# EAGLE library part M37903S4CHP(100PIN) (library renesas_mcu)
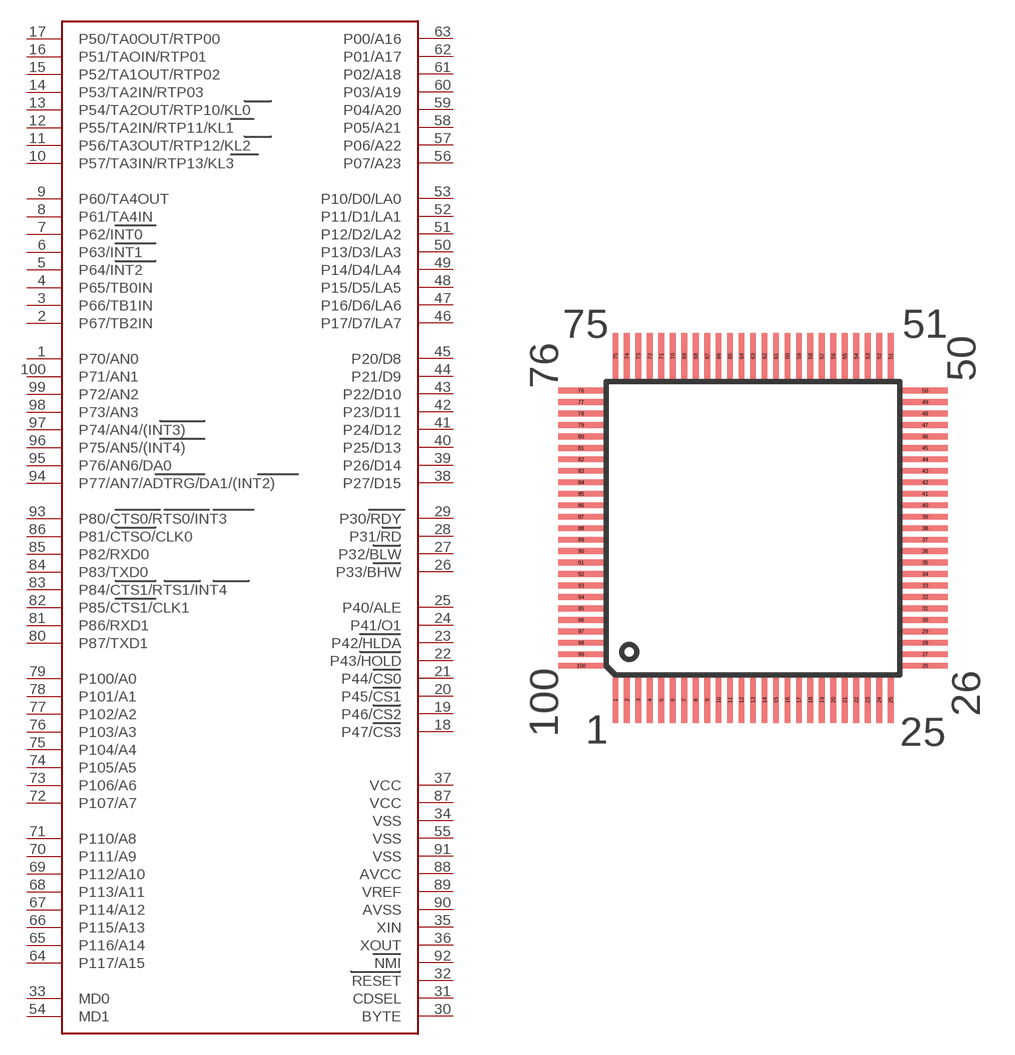
[diagram p78: symbol with the pads of 100P6Q-A; footprint 100P6Q-A]

Designator prefix IC

## M37903S4CHP(100PIN)  [100P6Q-A]
1  P70/AN0
2  P67/TB2IN
3  P66/TB1IN
4  P65/TB0IN
5  P64/INT2
6  P63/INT1
7  P62/INT0
8  P61/TA4IN
9  P60/TA4OUT
10  P57/TA3IN/RTP13/KL3
11  P56/TA3OUT/RTP12/KL2
12  P55/TA2IN/RTP11/KL1
13  P54/TA2OUT/RTP10/KL0
14  P53/TA2IN/RTP03
15  P52/TA1OUT/RTP02
16  P51/TAOIN/RTP01
17  P50/TA0OUT/RTP00
18  P47/CS3
19  P46/CS2
20  P45/CS1
21  P44/CS0
22  P43/HOLD
23  P42/HLDA
24  P41/O1
25  P40/ALE
26  P33/BHW
27  P32/BLW
28  P31/RD
29  P30/RDY
30  BYTE
31  CDSEL
32  RESET
33  MD0
34  VSS
35  XIN
36  XOUT
37  VCC
38  P27/D15
39  P26/D14
40  P25/D13
41  P24/D12
42  P23/D11
43  P22/D10
44  P21/D9
45  P20/D8
46  P17/D7/LA7
47  P16/D6/LA6
48  P15/D5/LA5
49  P14/D4/LA4
50  P13/D3/LA3
51  P12/D2/LA2
52  P11/D1/LA1
53  P10/D0/LA0
54  MD1
55  VSS
56  P07/A23
57  P06/A22
58  P05/A21
59  P04/A20
60  P03/A19
61  P02/A18
62  P01/A17
63  P00/A16
64  P117/A15
65  P116/A14
66  P115/A13
67  P114/A12
68  P113/A11
69  P112/A10
70  P111/A9
71  P110/A8
72  P107/A7
73  P106/A6
74  P105/A5
75  P104/A4
76  P103/A3
77  P102/A2
78  P101/A1
79  P100/A0
80  P87/TXD1
81  P86/RXD1
82  P85/CTS1/CLK1
83  P84/CTS1/RTS1/INT4
84  P83/TXD0
85  P82/RXD0
86  P81/CTSO/CLK0
87  VCC
88  AVCC
89  VREF
90  AVSS
91  VSS
92  NMI
93  P80/CTS0/RTS0/INT3
94  P77/AN7/ADTRG/DA1/(INT2)
95  P76/AN6/DA0
96  P75/AN5/(INT4)
97  P74/AN4/(INT3)
98  P73/AN3
99  P72/AN2
100  P71/AN1

## Footprint 100P6Q-A (pad centres in mm)
smd 0.25 x 2: 1 -6,-7.5; 2 -5.5,-7.5; 3 -5,-7.5; 4 -4.5,-7.5; 5 -4,-7.5; 6 -3.5,-7.5; 7 -3,-7.5; 8 -2.5,-7.5; 9 -2,-7.5; 10 -1.5,-7.5; 11 -1,-7.5; 12 -0.5,-7.5; 13 0,-7.5; 14 0.5,-7.5; 15 1,-7.5; 16 1.5,-7.5; 17 2,-7.5; 18 2.5,-7.5; 19 3,-7.5; 20 3.5,-7.5; 21 4,-7.5; 22 4.5,-7.5; 23 5,-7.5; 24 5.5,-7.5; 25 6,-7.5; 51 6,7.5; 52 5.5,7.5; 53 5,7.5; 54 4.5,7.5; 55 4,7.5; 56 3.5,7.5; 57 3,7.5; 58 2.5,7.5; 59 2,7.5; 60 1.5,7.5; 61 1,7.5; 62 0.5,7.5; 63 0,7.5; 64 -0.5,7.5; 65 -1,7.5; 66 -1.5,7.5; 67 -2,7.5; 68 -2.5,7.5; 69 -3,7.5; 70 -3.5,7.5; 71 -4,7.5; 72 -4.5,7.5; 73 -5,7.5; 74 -5.5,7.5; 75 -6,7.5
smd 2 x 0.25: 26 7.5,-6; 27 7.5,-5.5; 28 7.5,-5; 29 7.5,-4.5; 30 7.5,-4; 31 7.5,-3.5; 32 7.5,-3; 33 7.5,-2.5; 34 7.5,-2; 35 7.5,-1.5; 36 7.5,-1; 37 7.5,-0.5; 38 7.5,0; 39 7.5,0.5; 40 7.5,1; 41 7.5,1.5; 42 7.5,2; 43 7.5,2.5; 44 7.5,3; 45 7.5,3.5; 46 7.5,4; 47 7.5,4.5; 48 7.5,5; 49 7.5,5.5; 50 7.5,6; 76 -7.5,6; 77 -7.5,5.5; 78 -7.5,5; 79 -7.5,4.5; 80 -7.5,4; 81 -7.5,3.5; 82 -7.5,3; 83 -7.5,2.5; 84 -7.5,2; 85 -7.5,1.5; 86 -7.5,1; 87 -7.5,0.5; 88 -7.5,0; 89 -7.5,-0.5; 90 -7.5,-1; 91 -7.5,-1.5; 92 -7.5,-2; 93 -7.5,-2.5; 94 -7.5,-3; 95 -7.5,-3.5; 96 -7.5,-4; 97 -7.5,-4.5; 98 -7.5,-5; 99 -7.5,-5.5; 100 -7.5,-6